# Altium schematic symbol library TPS6283810YFPT.SchLib: 1 symbol
Pins are listed as number, name and electrical type; pins without a type are passive.

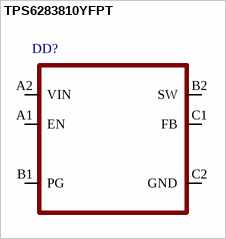
[diagram p0: symbol TPS6283810YFPT]

## TPS6283810YFPT
designator DD?
pins: A1 EN, A2 VIN, B1 PG, B2 SW, C1 FB, C2 GND